# EAGLE library part SCPHS-13.6+ (library SCPHS-13.6+)
RF IC Phase Shifter Cellular, DCS, PCS 10MHz ~ 16MHz 360 Phase Shift Source: Datasheet <https://www.minicircuits.com/pdfs/SCPHS-13.6 .pdf?srsltid=AfmBOood8OJ5uavXDNUtbAfkLWqTrYLA4ByT_aWsjahEDcoRM0afmWrr>
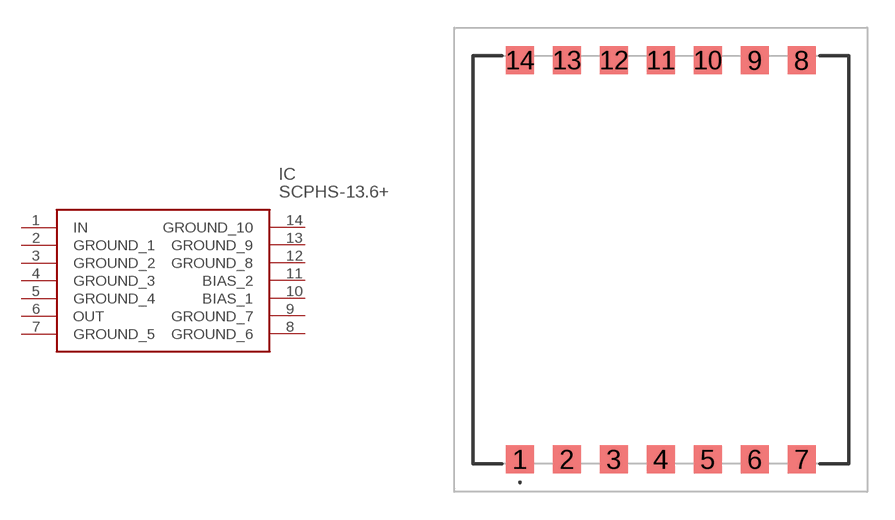
[diagram p0: symbol with the pads of SCPHS136; footprint SCPHS136]

Designator prefix IC

## SCPHS-13.6+ (Description: RF IC Phase Shifter Cellular, DCS, PCS 10MHz ~ 16MHz 360 Phase Shift; Height: 6.35mm; Manufacturer_Name: Mini-Circuits; Manufacturer_Part_Number: SCPHS-13.6+)  [SCPHS136]
1  IN
2  GROUND_1
3  GROUND_2
4  GROUND_3
5  GROUND_4
6  OUT
7  GROUND_5
8  GROUND_6
9  GROUND_7
10  BIAS_1
11  BIAS_2
12  GROUND_8
13  GROUND_9
14  GROUND_10

## Footprint SCPHS136 (pad centres in mm)
HU1371_2025-1.1
smd 1.52 x 1.52: 1 -7.62,-10.795; 2 -5.08,-10.795; 3 -2.54,-10.795; 4 0,-10.795; 5 2.54,-10.795; 6 5.08,-10.795; 7 7.62,-10.795; 8 7.62,10.795; 9 5.08,10.795; 10 2.54,10.795; 11 0,10.795; 12 -2.54,10.795; 13 -5.08,10.795; 14 -7.62,10.795